# Altium footprint library PcbLib-ESP-01S-WS-V1.0.PcbLib: 7 footprints
Each footprint in its own frame and in the unit in brackets; x right, y up, seen from the top. Pads: shape width x height; smd on the part's side, far side on the other; paste and mask are expansions set on the pad; w line width, h text height; cw(c..) or ccw(c..) is an arc to the next point about the centre after c.
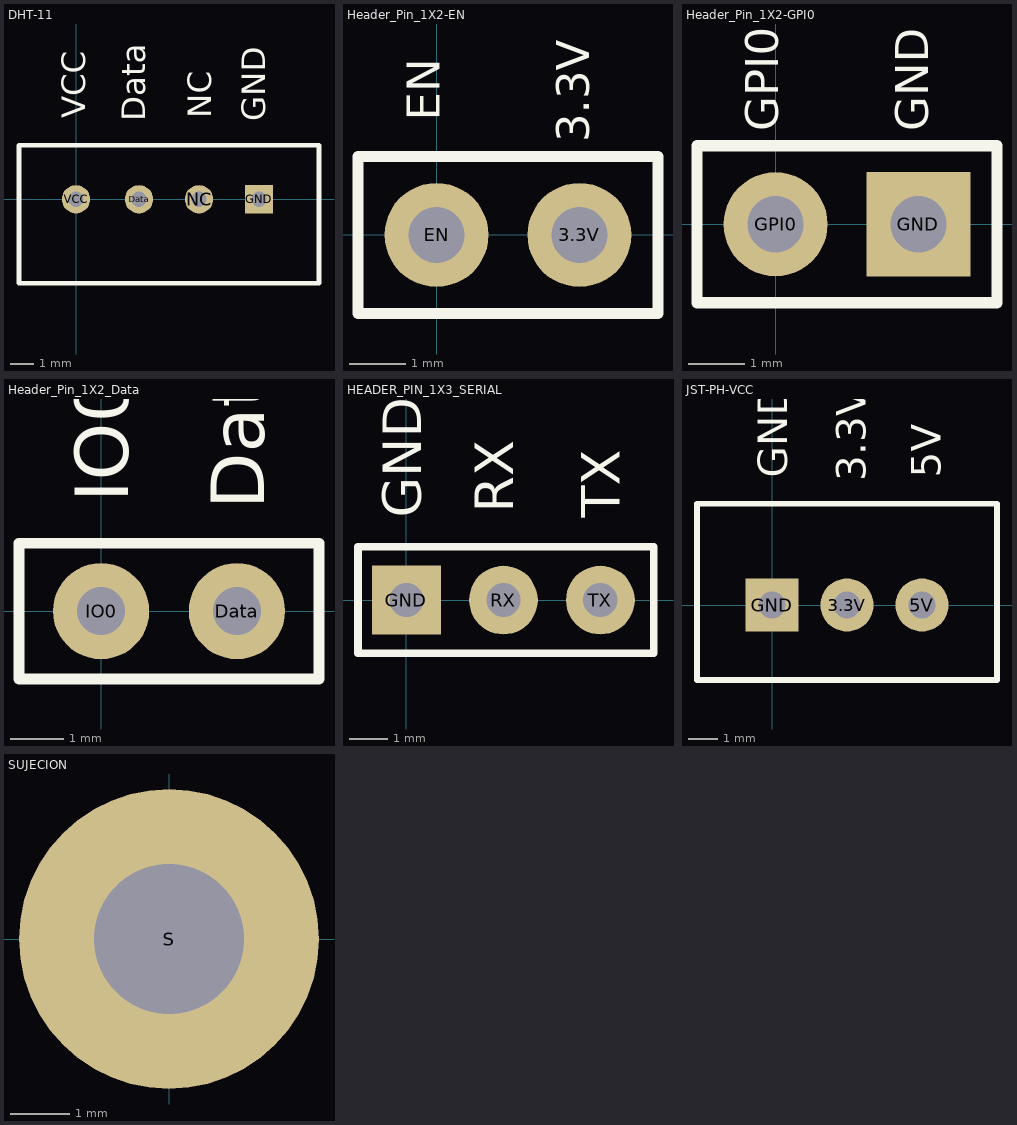
[diagram p0: the footprints below, top view; thin cyan lines are the x and y axes]

## DHT-11 [mm]
pads (4):
  round 1.2 hole 0.65: Data(2.667,0) NC(5.207,0) VCC(0,0)
  rect 1.2x1.2 hole 0.65: GND(7.747,0)
Top Overlay:
  lines w0.2: -2.413,-3.556 10.287,-3.556 10.287,2.286 -2.413,2.286 -2.413,-3.556
  text "VCC" at 0.381,3.429 h1
  text "Data" at 2.921,3.302 h1
  text "NC" at 5.715,3.429 h1
  text "GND" at 8.001,3.302 h1
3D body "DHT11.stp": height 16.99, standoff -6.21, extent -2.413,-3.556 10.287,2.244

## Header_Pin_1X2-EN [mm]
pads (2):
  round 1.85 hole 1: 3.3V(2.54,0) EN(0,0)
Top Overlay:
  lines w0.2: -1.397,-1.397 3.937,-1.397 3.937,1.397 -1.397,1.397 -1.397,-1.397
  text "3.3V" at 2.91,1.651 h1
  text "EN" at 0.254,2.032 h1
3D body "1x2 TH Vert 100mil.step": height 8.38, standoff -3.3, extent -1.27,-1.27 3.81,1.27
3D body "Jumper.step": height 8.5, standoff 2.5, extent -1.33,-1.2 3.87,1.2

## Header_Pin_1X2-GPI0 [mm]
pads (2):
  rect 1.85x1.85 hole 1: GND(2.54,0)
  round 1.85 hole 1: GPI0(0,0)
Top Overlay:
  lines w0.2: -1.397,-1.397 -1.397,1.397 3.937,1.397 3.937,-1.397 -1.397,-1.397
  text "GPI0" at 0.243,1.651 h1
  text "GND" at 2.91,1.651 h1
3D body "Jumper.step": height 8.5, standoff 2.5, extent -1.33,-1.2 3.87,1.2
3D body "1x2 TH Vert 100mil.step": height 8.38, standoff -3.3, extent -1.27,-1.27 3.81,1.27

## Header_Pin_1X2_Data [mm]
pads (2):
  round 1.8 hole 0.9: Data(2.54,0) IO0(0,0)
Top Overlay:
  lines w0.2: -1.535,-1.27 4.075,-1.27 4.075,0 4.075,1.27 -1.535,1.27 -1.535,-1.27
  text "IO0" at 0.508,2.032 h1
  text "Data" at 3.048,1.905 h1
3D body "1x2 TH Vert 100mil.step": height 8.51, standoff -3.17, extent -1.27,-1.27 3.81,1.27

## HEADER_PIN_1X3_SERIAL [mm]
pads (3):
  rect 1.8x1.8 hole 0.9: GND(0,0)
  round 1.8 hole 0.9: RX(2.54,0) TX(5.08,0)
Top Overlay:
  lines w0.2: -1.27,-1.397 -1.27,1.397 6.477,1.397 6.477,-1.397 -1.27,-1.397
  text "GND" at 0.381,2.159 h1
  text "TX" at 5.588,2.159 h1
  text "RX" at 2.794,2.286 h1
3D body "1x3 TH Vert 100mil.step": height 8.38, standoff -3.3, extent -1.27,-1.27 6.35,1.27

## JST-PH-VCC [mm]
pads (3):
  round 1.8 hole 0.9: 3.3V(2.54,0) 5V(5.08,0)
  rect 1.8x1.8 hole 0.9: GND(0,0)
Top Overlay:
  lines w0.2: -2.54,-2.54 7.62,-2.54 7.62,3.429 -2.54,3.429 -2.54,-2.54
  text "GND" at 0.508,4.318 h1
  text "5V" at 5.715,4.318 h1
  text "3.3V" at 3.175,4.191 h1
3D body "B3B-XH-A.STEP": height 7, standoff -3.4, extent -2.41,-2.413 7.49,3.337

## SUJECION [mm]
pads (1):
  round 5.08 hole 2.54: S(0,0)